# Altium integrated library C0603C104J4RAC.IntLib: 1 symbol
Pins are listed as number, name and electrical type; pins without a type are passive.

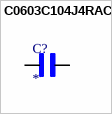
[diagram p0: symbol C0603C104J4RAC]

## C0603C104J4RAC
designator C?
0.1 ÂµF Â±5% 16V Ceramic Capacitor X7R 0603 (1608 Metric); MF: KEMET; MP: C0603C104J4RAC; SnapEDA_Link: https://www.snapeda.com/parts/C0603C104J4RAC/KEMET/view-part/?ref=snap; Package: 603-2 KEMET; Value: *; Check_prices: https://www.snapeda.com/parts/C0603C104J4RAC/KEMET/view-part/?ref=eda
footprint CAPC1608X90N
pins: 1, 2